# Altium integrated library BJTs.IntLib: 9 symbols
Pins are listed as number, name and electrical type; pins without a type are passive.

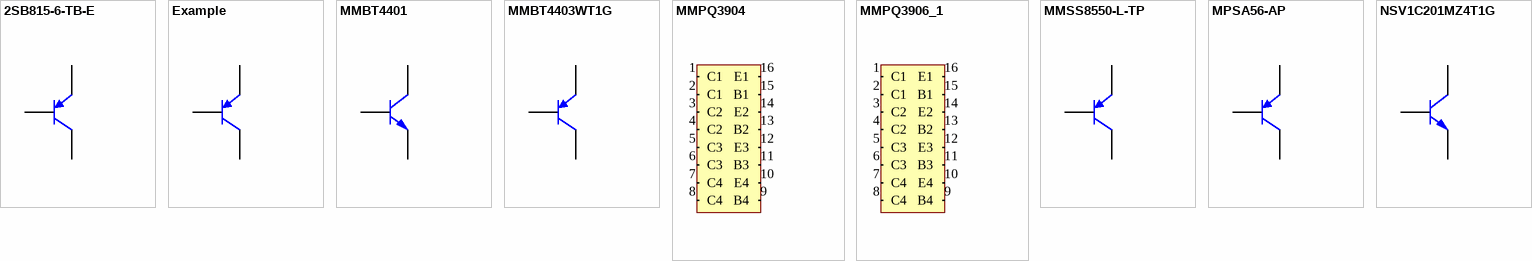
[diagram p0: symbols 2SB815-6-TB-E to NSV1C201MZ4T1G]

## 2SB815-6-TB-E
designator Q?  (value not drawn)
Type: PNP; Beta: 200; ic: 0.7; VceMax: 15; MfrPartNo: 2SB815-6-TB-E; Name: 2SB815-6-TB-E; Package: SOT23-3; Link: https://www.digikey.com/product-detail/en/on-semiconductor/2SB815-6-TB-E/2SB815-6-TB-EOSCT-ND/8538307
footprint SOT23-3 (SOT23, 3-Leads, Body 2.92x2.37mm, Pitch 0.95mm, IPC Medium Density, NUP2105L)
pins: 1 B, 2 E, 3 C

## Example
designator Q?
pins: 1 E, 2 B, 3 C

## MMBT4401
designator Q?  (value not drawn)
Type: NPN; MfrPartNo: MMBT4401; Name: MMBT4401; VceMax: *; Package: SOT23-3; Link: https://www.digikey.com/product-detail/en/diodes-incorporated/MMBT4401-7-F/MMBT4401-FDICT-ND/775867
footprint SOT23-3 (SOT23, 3-Leads, Body 2.92x2.37mm, Pitch 0.95mm, IPC Medium Density, NUP2105L)
pins: 1 B, 2 E, 3 C

## MMBT4403WT1G
designator Q?  (value not drawn)
Type: PNP; MfrPartNo: MMBT4403WT1G; Name: MMBT4403WT1G; VceMax: *; Package: SOT23-3; Link: https://www.digikey.com/product-detail/en/on-semiconductor/MMBT4403WT1G/MMBT4403WT1GOSCT-ND/3487572
footprint SOT23-3 (SOT23, 3-Leads, Body 2.92x2.37mm, Pitch 0.95mm, IPC Medium Density, NUP2105L)
pins: 1 B, 2 E, 3 C

## MMPQ3904
designator Q?  (value not drawn)
Type: NPN Array; Beta: 75; ic: 200; VceMax: 40; MfrPartNo: MMPQ3904; Name: MMPQ3904; Package: SOIC-16; Link: https://www.mouser.com/ProductDetail/ON-Semiconductor-Fairchild/MMPQ3904?qs=sGAEpiMZZMshyDBzk1%2fWi8oN7VHZ91OkACYhS8H8agM%3d
footprint SOIC-16 (SOIC, 16-Leads, Body 9.90x3.90mm, Pitch 1.27mm, IPC Medium Density)
pins: 1 C1 (in), 2 C1 (in), 3 C2 (in), 4 C2 (in), 5 C3 (in), 6 C3 (in), 7 C4 (in), 8 C4 (in), 9 B4 (in), 10 E4 (in), 11 B3 (in), 12 E3 (in), 13 B2 (in), 14 E2 (in), 15 B1 (in), 16 E1 (in)

## MMPQ3906_1
designator Q?, comment MMPQ3906  (value not drawn)
Type: PNP Array; Beta: 75; ic: 100; VceMax: 40; MfrPartNo: MMPQ3906; Name: MMPQ3906; Package: SOIC-16; Link: https://www.digikey.com/product-detail/en/on-semiconductor/MMPQ3906/MMPQ3906CT-ND/3042671
footprint SOIC-16 (SOIC, 16-Leads, Body 9.90x3.90mm, Pitch 1.27mm, IPC Medium Density)
pins: 1 C1 (in), 2 C1 (in), 3 C2 (in), 4 C2 (in), 5 C3 (in), 6 C3 (in), 7 C4 (in), 8 C4 (in), 9 B4 (in), 10 E4 (in), 11 B3 (in), 12 E3 (in), 13 B2 (in), 14 E2 (in), 15 B1 (in), 16 E1 (in)

## MMSS8550-L-TP
designator Q?  (value not drawn)
Type: PNP; VceMax: 25; MfrPartNo: MMSS8550-L-TP; Name: MMSS8550-L-TP; Package: SOT23-3; Link: https://www.digikey.com/product-detail/en/micro-commercial-co/MMSS8550-L-TP/MMSS8550-L-TPMSCT-ND/2827205
footprint SOT23-3 (SOT23, 3-Leads, Body 2.92x2.37mm, Pitch 0.95mm, IPC Medium Density, NUP2105L)
pins: 1 B, 2 E, 3 C

## MPSA56-AP
designator Q?  (value not drawn)
Type: PNP; Beta: 100; MfrPartNo: MPSA56-AP; Name: MPSA56-AP; ic: *; VceMax: *; Package: TO-90; Link: https://www.digikey.com/product-detail/en/micro-commercial-co/MPSA56-AP/MPSA56-APMSCT-ND/2233955
footprint TO-92 (TO-226)
pins: 1 E, 2 B, 3 C

## NSV1C201MZ4T1G
designator Q?
Type: NPN; Beta: 360; ic: 2; VceMax: 100; MfrPartNo: NSV1C201MZ4T1G; Name: NSV1C201MZ4T1G; Package: SOT223-4; Link: https://www.mouser.com/datasheet/2/308/NSS1C201MZ4-D-356308.pdf
footprint SOT-223-4 (SOT223, 4-Leads, Body 6.5x3.5mm, Pitch 2.3mm)
pins: 1 B, 2 C, 3 E, 4 C